# Altium schematic symbol library con-amp-micromatch-8-vias.SCHLIB: 108 symbols (part 2 of 3)
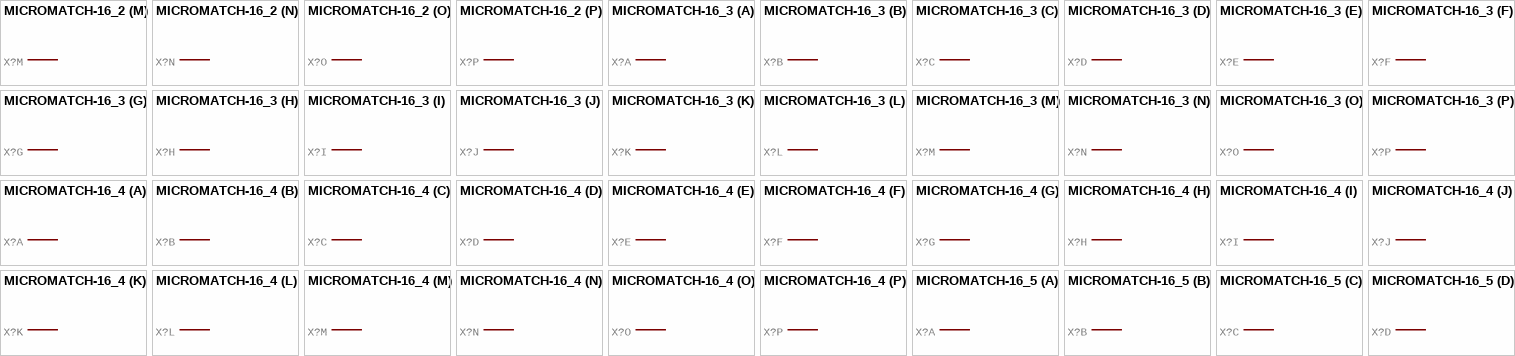
[diagram p39: symbols MICROMATCH-16_2 to MICROMATCH-16_5]

## MICROMATCH-16_2
designator X?, comment MicroMaTch 16  8-215464-6 / 1-215464-6   Drawing Number C-215464 DDEController.pdf  (value not drawn)
GateName_1: -1; SymbolName_1: MV; GateName_2: -2; SymbolName_2: M; GateName_3: -3; GateName_4: -4; GateName_5: -5; GateName_6: -6; GateName_7: -7; GateName_8: -8; GateName_9: -9; GateName_10: -10; GateName_11: -11; GateName_12: -12; GateName_13: -13; GateName_14: -14; GateName_15: -15; GateName_16: -16; DeviceSetName: MICROMATCH-16; MF: FARNELL; SymbolName_3: M; SymbolName_4: M; SymbolName_5: M; SymbolName_6: M; SymbolName_7: M; SymbolName_8: M; SymbolName_9: M; SymbolName_10: M; SymbolName_11: M; SymbolName_12: M; SymbolName_13: M; SymbolName_14: M; SymbolName_15: M; SymbolName_16: M; LibraryName: con-amp-micromatch-8-vias; Package: MICROMATCH-16; MPN: 8-215464-6; OC_FARNELL: 3784680; OC_NEWARK: 26H3309
footprint MICROMATCH-16
part A pins: 1 S
part B pins: 2 S
part C pins: 3 S
part D pins: 4 S
part E pins: 5 S
part F pins: 6 S
part G pins: 7 S
part H pins: 8 S
part I pins: 9 S
part J pins: 10 S
part K pins: 11 S
part L pins: 12 S
part M pins: 13 S
part N pins: 14 S
part O pins: 15 S
part P pins: 16 S

## MICROMATCH-16_3
designator X?, comment MicroMaTch 16  8-215464-6 / 1-215464-6   Drawing Number C-215464 DDEController.pdf  (value not drawn)
GateName_1: -1; SymbolName_1: MV; GateName_2: -2; SymbolName_2: M; GateName_3: -3; GateName_4: -4; GateName_5: -5; GateName_6: -6; GateName_7: -7; GateName_8: -8; GateName_9: -9; GateName_10: -10; GateName_11: -11; GateName_12: -12; GateName_13: -13; GateName_14: -14; GateName_15: -15; GateName_16: -16; DeviceSetName: MICROMATCH-16; MF: FARNELL; SymbolName_3: M; SymbolName_4: M; SymbolName_5: M; SymbolName_6: M; SymbolName_7: M; SymbolName_8: M; SymbolName_9: M; SymbolName_10: M; SymbolName_11: M; SymbolName_12: M; SymbolName_13: M; SymbolName_14: M; SymbolName_15: M; SymbolName_16: M; LibraryName: con-amp-micromatch-8-vias; Package: MICROMATCH-16; MPN: 8-215464-6; OC_FARNELL: 3784680; OC_NEWARK: 26H3309
footprint MICROMATCH-16
part A pins: 1 S
part B pins: 2 S
part C pins: 3 S
part D pins: 4 S
part E pins: 5 S
part F pins: 6 S
part G pins: 7 S
part H pins: 8 S
part I pins: 9 S
part J pins: 10 S
part K pins: 11 S
part L pins: 12 S
part M pins: 13 S
part N pins: 14 S
part O pins: 15 S
part P pins: 16 S

## MICROMATCH-16_4
designator X?, comment MicroMaTch 16  8-215464-6 / 1-215464-6   Drawing Number C-215464 DDEController.pdf  (value not drawn)
GateName_1: -1; SymbolName_1: MV; GateName_2: -2; SymbolName_2: M; GateName_3: -3; GateName_4: -4; GateName_5: -5; GateName_6: -6; GateName_7: -7; GateName_8: -8; GateName_9: -9; GateName_10: -10; GateName_11: -11; GateName_12: -12; GateName_13: -13; GateName_14: -14; GateName_15: -15; GateName_16: -16; DeviceSetName: MICROMATCH-16; MF: FARNELL; SymbolName_3: M; SymbolName_4: M; SymbolName_5: M; SymbolName_6: M; SymbolName_7: M; SymbolName_8: M; SymbolName_9: M; SymbolName_10: M; SymbolName_11: M; SymbolName_12: M; SymbolName_13: M; SymbolName_14: M; SymbolName_15: M; SymbolName_16: M; LibraryName: con-amp-micromatch-8-vias; Package: MICROMATCH-16; MPN: 8-215464-6; OC_FARNELL: 3784680; OC_NEWARK: 26H3309
footprint MICROMATCH-16
part A pins: 1 S
part B pins: 2 S
part C pins: 3 S
part D pins: 4 S
part E pins: 5 S
part F pins: 6 S
part G pins: 7 S
part H pins: 8 S
part I pins: 9 S
part J pins: 10 S
part K pins: 11 S
part L pins: 12 S
part M pins: 13 S
part N pins: 14 S
part O pins: 15 S
part P pins: 16 S

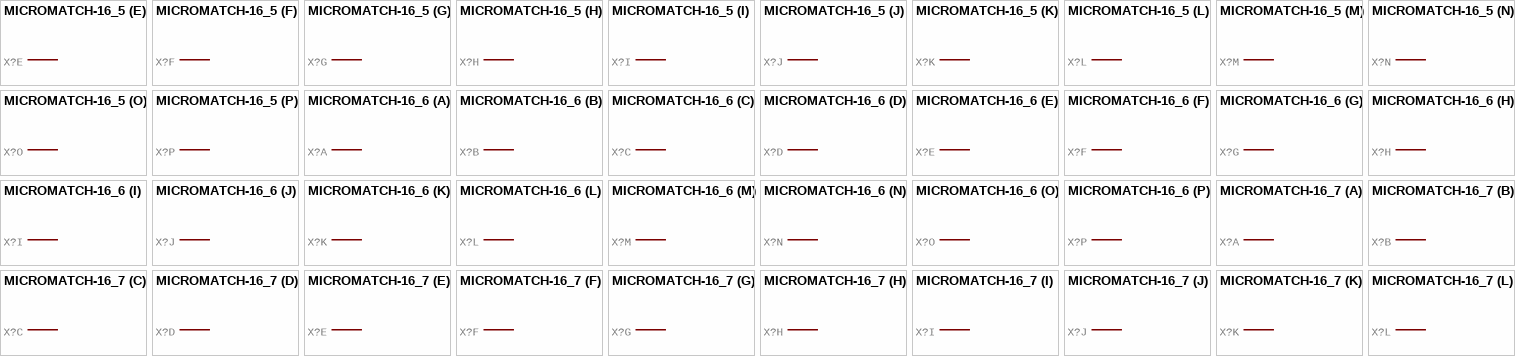
[diagram p16: symbols MICROMATCH-16_5 to MICROMATCH-16_7]

## MICROMATCH-16_5
designator X?, comment MicroMaTch 16  8-215464-6 / 1-215464-6   Drawing Number C-215464 DDEController.pdf  (value not drawn)
GateName_1: -1; SymbolName_1: MV; GateName_2: -2; SymbolName_2: M; GateName_3: -3; GateName_4: -4; GateName_5: -5; GateName_6: -6; GateName_7: -7; GateName_8: -8; GateName_9: -9; GateName_10: -10; GateName_11: -11; GateName_12: -12; GateName_13: -13; GateName_14: -14; GateName_15: -15; GateName_16: -16; DeviceSetName: MICROMATCH-16; MF: FARNELL; SymbolName_3: M; SymbolName_4: M; SymbolName_5: M; SymbolName_6: M; SymbolName_7: M; SymbolName_8: M; SymbolName_9: M; SymbolName_10: M; SymbolName_11: M; SymbolName_12: M; SymbolName_13: M; SymbolName_14: M; SymbolName_15: M; SymbolName_16: M; LibraryName: con-amp-micromatch-8-vias; Package: MICROMATCH-16; MPN: 8-215464-6; OC_FARNELL: 3784680; OC_NEWARK: 26H3309
footprint MICROMATCH-16
part A pins: 1 S
part B pins: 2 S
part C pins: 3 S
part D pins: 4 S
part E pins: 5 S
part F pins: 6 S
part G pins: 7 S
part H pins: 8 S
part I pins: 9 S
part J pins: 10 S
part K pins: 11 S
part L pins: 12 S
part M pins: 13 S
part N pins: 14 S
part O pins: 15 S
part P pins: 16 S

## MICROMATCH-16_6
designator X?, comment MicroMaTch 16  8-215464-6 / 1-215464-6   Drawing Number C-215464 DDEController.pdf  (value not drawn)
GateName_1: -1; SymbolName_1: MV; GateName_2: -2; SymbolName_2: M; GateName_3: -3; GateName_4: -4; GateName_5: -5; GateName_6: -6; GateName_7: -7; GateName_8: -8; GateName_9: -9; GateName_10: -10; GateName_11: -11; GateName_12: -12; GateName_13: -13; GateName_14: -14; GateName_15: -15; GateName_16: -16; DeviceSetName: MICROMATCH-16; MF: FARNELL; SymbolName_3: M; SymbolName_4: M; SymbolName_5: M; SymbolName_6: M; SymbolName_7: M; SymbolName_8: M; SymbolName_9: M; SymbolName_10: M; SymbolName_11: M; SymbolName_12: M; SymbolName_13: M; SymbolName_14: M; SymbolName_15: M; SymbolName_16: M; LibraryName: con-amp-micromatch-8-vias; Package: MICROMATCH-16; MPN: 8-215464-6; OC_FARNELL: 3784680; OC_NEWARK: 26H3309
footprint MICROMATCH-16
part A pins: 1 S
part B pins: 2 S
part C pins: 3 S
part D pins: 4 S
part E pins: 5 S
part F pins: 6 S
part G pins: 7 S
part H pins: 8 S
part I pins: 9 S
part J pins: 10 S
part K pins: 11 S
part L pins: 12 S
part M pins: 13 S
part N pins: 14 S
part O pins: 15 S
part P pins: 16 S

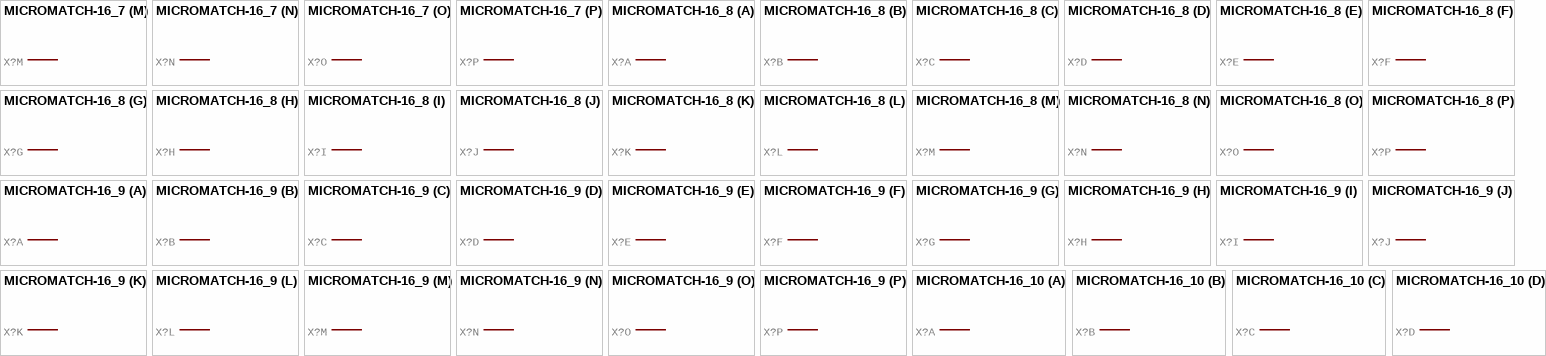
[diagram p17: symbols MICROMATCH-16_7 to MICROMATCH-16_10]

## MICROMATCH-16_7
designator X?, comment MicroMaTch 16  8-215464-6 / 1-215464-6   Drawing Number C-215464 DDEController.pdf  (value not drawn)
GateName_1: -1; SymbolName_1: MV; GateName_2: -2; SymbolName_2: M; GateName_3: -3; GateName_4: -4; GateName_5: -5; GateName_6: -6; GateName_7: -7; GateName_8: -8; GateName_9: -9; GateName_10: -10; GateName_11: -11; GateName_12: -12; GateName_13: -13; GateName_14: -14; GateName_15: -15; GateName_16: -16; DeviceSetName: MICROMATCH-16; MF: FARNELL; SymbolName_3: M; SymbolName_4: M; SymbolName_5: M; SymbolName_6: M; SymbolName_7: M; SymbolName_8: M; SymbolName_9: M; SymbolName_10: M; SymbolName_11: M; SymbolName_12: M; SymbolName_13: M; SymbolName_14: M; SymbolName_15: M; SymbolName_16: M; LibraryName: con-amp-micromatch-8-vias; Package: MICROMATCH-16; MPN: 8-215464-6; OC_FARNELL: 3784680; OC_NEWARK: 26H3309
footprint MICROMATCH-16
part A pins: 1 S
part B pins: 2 S
part C pins: 3 S
part D pins: 4 S
part E pins: 5 S
part F pins: 6 S
part G pins: 7 S
part H pins: 8 S
part I pins: 9 S
part J pins: 10 S
part K pins: 11 S
part L pins: 12 S
part M pins: 13 S
part N pins: 14 S
part O pins: 15 S
part P pins: 16 S

## MICROMATCH-16_8
designator X?, comment MicroMaTch 16  8-215464-6 / 1-215464-6   Drawing Number C-215464 DDEController.pdf  (value not drawn)
GateName_1: -1; SymbolName_1: MV; GateName_2: -2; SymbolName_2: M; GateName_3: -3; GateName_4: -4; GateName_5: -5; GateName_6: -6; GateName_7: -7; GateName_8: -8; GateName_9: -9; GateName_10: -10; GateName_11: -11; GateName_12: -12; GateName_13: -13; GateName_14: -14; GateName_15: -15; GateName_16: -16; DeviceSetName: MICROMATCH-16; MF: FARNELL; SymbolName_3: M; SymbolName_4: M; SymbolName_5: M; SymbolName_6: M; SymbolName_7: M; SymbolName_8: M; SymbolName_9: M; SymbolName_10: M; SymbolName_11: M; SymbolName_12: M; SymbolName_13: M; SymbolName_14: M; SymbolName_15: M; SymbolName_16: M; LibraryName: con-amp-micromatch-8-vias; Package: MICROMATCH-16; MPN: 8-215464-6; OC_FARNELL: 3784680; OC_NEWARK: 26H3309
footprint MICROMATCH-16
part A pins: 1 S
part B pins: 2 S
part C pins: 3 S
part D pins: 4 S
part E pins: 5 S
part F pins: 6 S
part G pins: 7 S
part H pins: 8 S
part I pins: 9 S
part J pins: 10 S
part K pins: 11 S
part L pins: 12 S
part M pins: 13 S
part N pins: 14 S
part O pins: 15 S
part P pins: 16 S

## MICROMATCH-16_9
designator X?, comment MicroMaTch 16  8-215464-6 / 1-215464-6   Drawing Number C-215464 DDEController.pdf  (value not drawn)
GateName_1: -1; SymbolName_1: MV; GateName_2: -2; SymbolName_2: M; GateName_3: -3; GateName_4: -4; GateName_5: -5; GateName_6: -6; GateName_7: -7; GateName_8: -8; GateName_9: -9; GateName_10: -10; GateName_11: -11; GateName_12: -12; GateName_13: -13; GateName_14: -14; GateName_15: -15; GateName_16: -16; DeviceSetName: MICROMATCH-16; MF: FARNELL; SymbolName_3: M; SymbolName_4: M; SymbolName_5: M; SymbolName_6: M; SymbolName_7: M; SymbolName_8: M; SymbolName_9: M; SymbolName_10: M; SymbolName_11: M; SymbolName_12: M; SymbolName_13: M; SymbolName_14: M; SymbolName_15: M; SymbolName_16: M; LibraryName: con-amp-micromatch-8-vias; Package: MICROMATCH-16; MPN: 8-215464-6; OC_FARNELL: 3784680; OC_NEWARK: 26H3309
footprint MICROMATCH-16
part A pins: 1 S
part B pins: 2 S
part C pins: 3 S
part D pins: 4 S
part E pins: 5 S
part F pins: 6 S
part G pins: 7 S
part H pins: 8 S
part I pins: 9 S
part J pins: 10 S
part K pins: 11 S
part L pins: 12 S
part M pins: 13 S
part N pins: 14 S
part O pins: 15 S
part P pins: 16 S

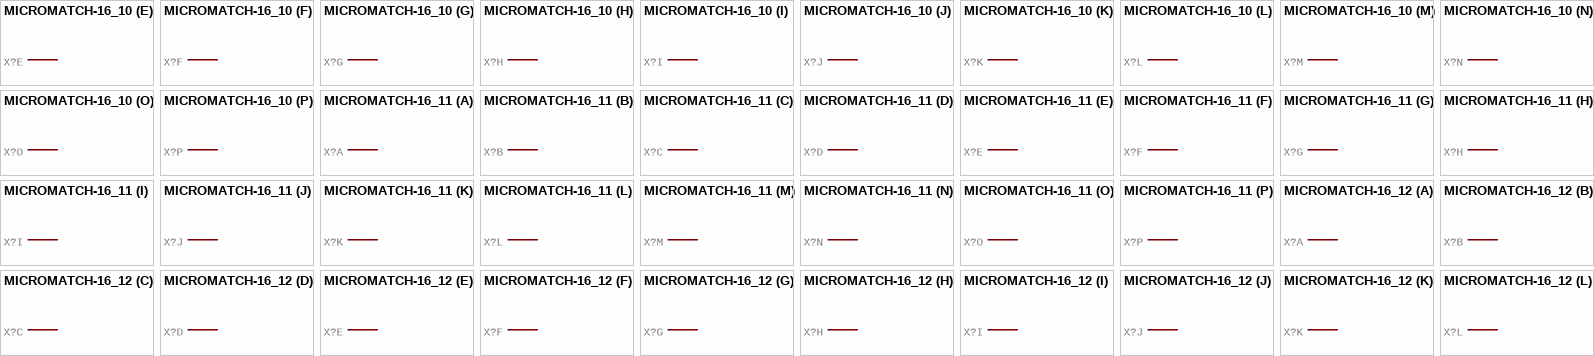
[diagram p18: symbols MICROMATCH-16_10 to MICROMATCH-16_12]

## MICROMATCH-16_10
designator X?, comment MicroMaTch 16  8-215464-6 / 1-215464-6   Drawing Number C-215464 DDEController.pdf  (value not drawn)
GateName_1: -1; SymbolName_1: MV; GateName_2: -2; SymbolName_2: M; GateName_3: -3; GateName_4: -4; GateName_5: -5; GateName_6: -6; GateName_7: -7; GateName_8: -8; GateName_9: -9; GateName_10: -10; GateName_11: -11; GateName_12: -12; GateName_13: -13; GateName_14: -14; GateName_15: -15; GateName_16: -16; DeviceSetName: MICROMATCH-16; MF: FARNELL; SymbolName_3: M; SymbolName_4: M; SymbolName_5: M; SymbolName_6: M; SymbolName_7: M; SymbolName_8: M; SymbolName_9: M; SymbolName_10: M; SymbolName_11: M; SymbolName_12: M; SymbolName_13: M; SymbolName_14: M; SymbolName_15: M; SymbolName_16: M; LibraryName: con-amp-micromatch-8-vias; Package: MICROMATCH-16; MPN: 8-215464-6; OC_FARNELL: 3784680; OC_NEWARK: 26H3309
footprint MICROMATCH-16
part A pins: 1 S
part B pins: 2 S
part C pins: 3 S
part D pins: 4 S
part E pins: 5 S
part F pins: 6 S
part G pins: 7 S
part H pins: 8 S
part I pins: 9 S
part J pins: 10 S
part K pins: 11 S
part L pins: 12 S
part M pins: 13 S
part N pins: 14 S
part O pins: 15 S
part P pins: 16 S

## MICROMATCH-16_11
designator X?, comment MicroMaTch 16  8-215464-6 / 1-215464-6   Drawing Number C-215464 DDEController.pdf  (value not drawn)
GateName_1: -1; SymbolName_1: MV; GateName_2: -2; SymbolName_2: M; GateName_3: -3; GateName_4: -4; GateName_5: -5; GateName_6: -6; GateName_7: -7; GateName_8: -8; GateName_9: -9; GateName_10: -10; GateName_11: -11; GateName_12: -12; GateName_13: -13; GateName_14: -14; GateName_15: -15; GateName_16: -16; DeviceSetName: MICROMATCH-16; MF: FARNELL; SymbolName_3: M; SymbolName_4: M; SymbolName_5: M; SymbolName_6: M; SymbolName_7: M; SymbolName_8: M; SymbolName_9: M; SymbolName_10: M; SymbolName_11: M; SymbolName_12: M; SymbolName_13: M; SymbolName_14: M; SymbolName_15: M; SymbolName_16: M; LibraryName: con-amp-micromatch-8-vias; Package: MICROMATCH-16; MPN: 8-215464-6; OC_FARNELL: 3784680; OC_NEWARK: 26H3309
footprint MICROMATCH-16
part A pins: 1 S
part B pins: 2 S
part C pins: 3 S
part D pins: 4 S
part E pins: 5 S
part F pins: 6 S
part G pins: 7 S
part H pins: 8 S
part I pins: 9 S
part J pins: 10 S
part K pins: 11 S
part L pins: 12 S
part M pins: 13 S
part N pins: 14 S
part O pins: 15 S
part P pins: 16 S

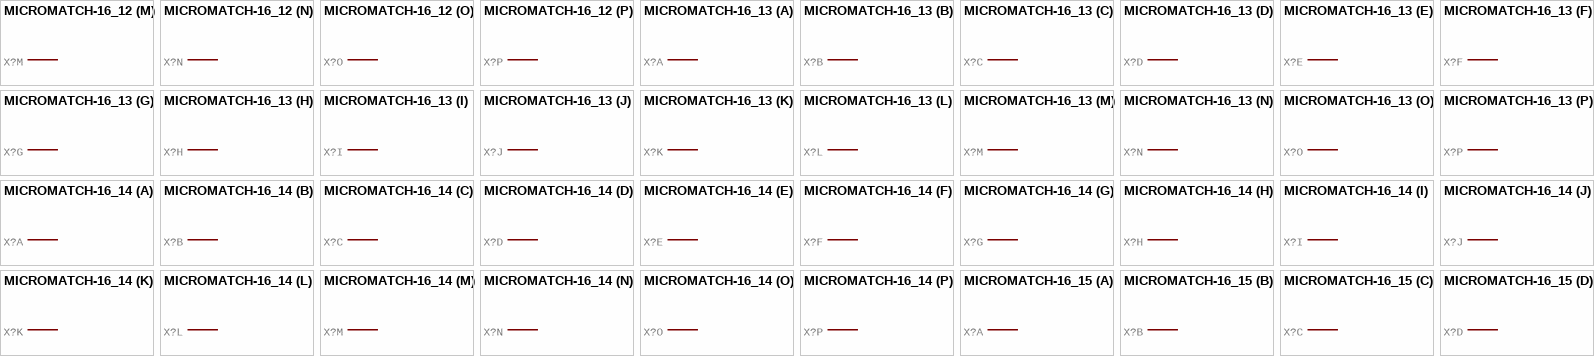
[diagram p19: symbols MICROMATCH-16_12 to MICROMATCH-16_15]

## MICROMATCH-16_12
designator X?, comment MicroMaTch 16  8-215464-6 / 1-215464-6   Drawing Number C-215464 DDEController.pdf  (value not drawn)
GateName_1: -1; SymbolName_1: MV; GateName_2: -2; SymbolName_2: M; GateName_3: -3; GateName_4: -4; GateName_5: -5; GateName_6: -6; GateName_7: -7; GateName_8: -8; GateName_9: -9; GateName_10: -10; GateName_11: -11; GateName_12: -12; GateName_13: -13; GateName_14: -14; GateName_15: -15; GateName_16: -16; DeviceSetName: MICROMATCH-16; MF: FARNELL; SymbolName_3: M; SymbolName_4: M; SymbolName_5: M; SymbolName_6: M; SymbolName_7: M; SymbolName_8: M; SymbolName_9: M; SymbolName_10: M; SymbolName_11: M; SymbolName_12: M; SymbolName_13: M; SymbolName_14: M; SymbolName_15: M; SymbolName_16: M; LibraryName: con-amp-micromatch-8-vias; Package: MICROMATCH-16; MPN: 8-215464-6; OC_FARNELL: 3784680; OC_NEWARK: 26H3309
footprint MICROMATCH-16
part A pins: 1 S
part B pins: 2 S
part C pins: 3 S
part D pins: 4 S
part E pins: 5 S
part F pins: 6 S
part G pins: 7 S
part H pins: 8 S
part I pins: 9 S
part J pins: 10 S
part K pins: 11 S
part L pins: 12 S
part M pins: 13 S
part N pins: 14 S
part O pins: 15 S
part P pins: 16 S

## MICROMATCH-16_13
designator X?, comment MicroMaTch 16  8-215464-6 / 1-215464-6   Drawing Number C-215464 DDEController.pdf  (value not drawn)
GateName_1: -1; SymbolName_1: MV; GateName_2: -2; SymbolName_2: M; GateName_3: -3; GateName_4: -4; GateName_5: -5; GateName_6: -6; GateName_7: -7; GateName_8: -8; GateName_9: -9; GateName_10: -10; GateName_11: -11; GateName_12: -12; GateName_13: -13; GateName_14: -14; GateName_15: -15; GateName_16: -16; DeviceSetName: MICROMATCH-16; MF: FARNELL; SymbolName_3: M; SymbolName_4: M; SymbolName_5: M; SymbolName_6: M; SymbolName_7: M; SymbolName_8: M; SymbolName_9: M; SymbolName_10: M; SymbolName_11: M; SymbolName_12: M; SymbolName_13: M; SymbolName_14: M; SymbolName_15: M; SymbolName_16: M; LibraryName: con-amp-micromatch-8-vias; Package: MICROMATCH-16; MPN: 8-215464-6; OC_FARNELL: 3784680; OC_NEWARK: 26H3309
footprint MICROMATCH-16
part A pins: 1 S
part B pins: 2 S
part C pins: 3 S
part D pins: 4 S
part E pins: 5 S
part F pins: 6 S
part G pins: 7 S
part H pins: 8 S
part I pins: 9 S
part J pins: 10 S
part K pins: 11 S
part L pins: 12 S
part M pins: 13 S
part N pins: 14 S
part O pins: 15 S
part P pins: 16 S

## MICROMATCH-16_14
designator X?, comment MicroMaTch 16  8-215464-6 / 1-215464-6   Drawing Number C-215464 DDEController.pdf  (value not drawn)
GateName_1: -1; SymbolName_1: MV; GateName_2: -2; SymbolName_2: M; GateName_3: -3; GateName_4: -4; GateName_5: -5; GateName_6: -6; GateName_7: -7; GateName_8: -8; GateName_9: -9; GateName_10: -10; GateName_11: -11; GateName_12: -12; GateName_13: -13; GateName_14: -14; GateName_15: -15; GateName_16: -16; DeviceSetName: MICROMATCH-16; MF: FARNELL; SymbolName_3: M; SymbolName_4: M; SymbolName_5: M; SymbolName_6: M; SymbolName_7: M; SymbolName_8: M; SymbolName_9: M; SymbolName_10: M; SymbolName_11: M; SymbolName_12: M; SymbolName_13: M; SymbolName_14: M; SymbolName_15: M; SymbolName_16: M; LibraryName: con-amp-micromatch-8-vias; Package: MICROMATCH-16; MPN: 8-215464-6; OC_FARNELL: 3784680; OC_NEWARK: 26H3309
footprint MICROMATCH-16
part A pins: 1 S
part B pins: 2 S
part C pins: 3 S
part D pins: 4 S
part E pins: 5 S
part F pins: 6 S
part G pins: 7 S
part H pins: 8 S
part I pins: 9 S
part J pins: 10 S
part K pins: 11 S
part L pins: 12 S
part M pins: 13 S
part N pins: 14 S
part O pins: 15 S
part P pins: 16 S

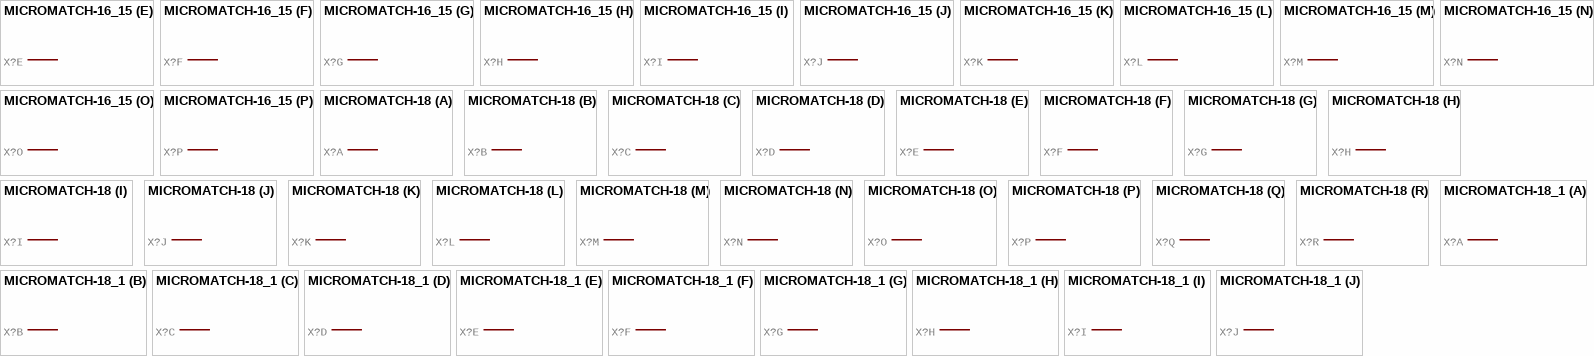
[diagram p20: symbols MICROMATCH-16_15 to MICROMATCH-18_1]

## MICROMATCH-16_15
designator X?, comment MicroMaTch 16  8-215464-6 / 1-215464-6   Drawing Number C-215464 DDEController.pdf  (value not drawn)
GateName_1: -1; SymbolName_1: MV; GateName_2: -2; SymbolName_2: M; GateName_3: -3; GateName_4: -4; GateName_5: -5; GateName_6: -6; GateName_7: -7; GateName_8: -8; GateName_9: -9; GateName_10: -10; GateName_11: -11; GateName_12: -12; GateName_13: -13; GateName_14: -14; GateName_15: -15; GateName_16: -16; DeviceSetName: MICROMATCH-16; MF: FARNELL; SymbolName_3: M; SymbolName_4: M; SymbolName_5: M; SymbolName_6: M; SymbolName_7: M; SymbolName_8: M; SymbolName_9: M; SymbolName_10: M; SymbolName_11: M; SymbolName_12: M; SymbolName_13: M; SymbolName_14: M; SymbolName_15: M; SymbolName_16: M; LibraryName: con-amp-micromatch-8-vias; Package: MICROMATCH-16; MPN: 8-215464-6; OC_FARNELL: 3784680; OC_NEWARK: 26H3309
footprint MICROMATCH-16
part A pins: 1 S
part B pins: 2 S
part C pins: 3 S
part D pins: 4 S
part E pins: 5 S
part F pins: 6 S
part G pins: 7 S
part H pins: 8 S
part I pins: 9 S
part J pins: 10 S
part K pins: 11 S
part L pins: 12 S
part M pins: 13 S
part N pins: 14 S
part O pins: 15 S
part P pins: 16 S

## MICROMATCH-18
designator X?, comment MicroMaTch 18  8-215464-8 / 1-215464-8   Drawing Number C-215464 DDEController.pdf  (value not drawn)
GateName_1: -1; SymbolName_1: MV; GateName_2: -2; SymbolName_2: M; GateName_3: -3; GateName_4: -4; GateName_5: -5; GateName_6: -6; GateName_7: -7; GateName_8: -8; GateName_9: -9; GateName_10: -10; GateName_11: -11; GateName_12: -12; GateName_13: -13; GateName_14: -14; GateName_15: -15; GateName_16: -16; GateName_17: -17; GateName_18: -18; DeviceSetName: MICROMATCH-18; SymbolName_3: M; SymbolName_4: M; SymbolName_5: M; SymbolName_6: M; SymbolName_7: M; SymbolName_8: M; SymbolName_9: M; SymbolName_10: M; SymbolName_11: M; SymbolName_12: M; SymbolName_13: M; SymbolName_14: M; SymbolName_15: M; SymbolName_16: M; SymbolName_17: M; SymbolName_18: M; LibraryName: con-amp-micromatch-8-vias; Package: MICROMATCH-18; MPN: 8-215464-8; OC_FARNELL: 3784691; OC_NEWARK: 19R9303
footprint MICROMATCH-18
part A pins: 1 S
part B pins: 2 S
part C pins: 3 S
part D pins: 4 S
part E pins: 5 S
part F pins: 6 S
part G pins: 7 S
part H pins: 8 S
part I pins: 9 S
part J pins: 10 S
part K pins: 11 S
part L pins: 12 S
part M pins: 13 S
part N pins: 14 S
part O pins: 15 S
part P pins: 16 S
part Q pins: 17 S
part R pins: 18 S

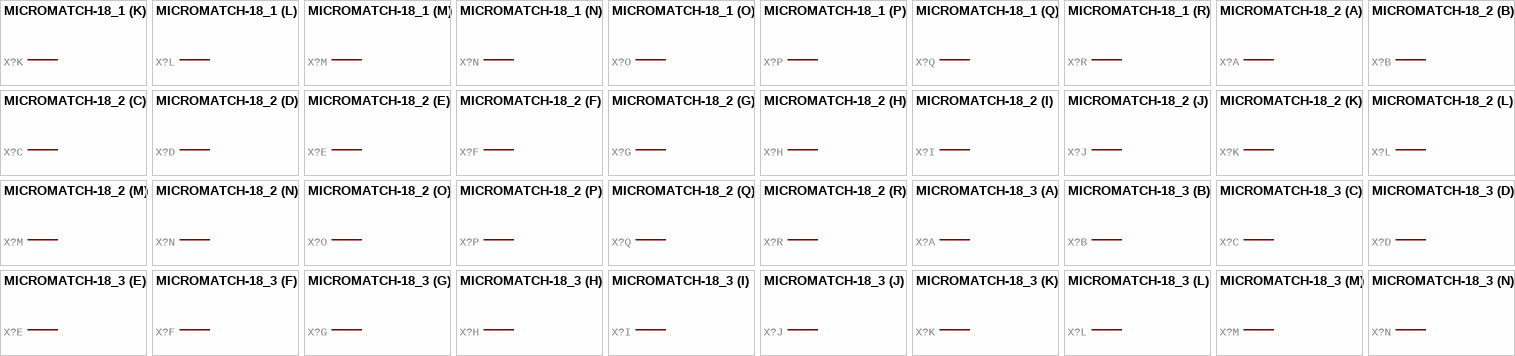
[diagram p21: symbols MICROMATCH-18_1 to MICROMATCH-18_3]

## MICROMATCH-18_1
designator X?, comment MicroMaTch 18  8-215464-8 / 1-215464-8   Drawing Number C-215464 DDEController.pdf  (value not drawn)
GateName_1: -1; SymbolName_1: MV; GateName_2: -2; SymbolName_2: M; GateName_3: -3; GateName_4: -4; GateName_5: -5; GateName_6: -6; GateName_7: -7; GateName_8: -8; GateName_9: -9; GateName_10: -10; GateName_11: -11; GateName_12: -12; GateName_13: -13; GateName_14: -14; GateName_15: -15; GateName_16: -16; GateName_17: -17; GateName_18: -18; DeviceSetName: MICROMATCH-18; SymbolName_3: M; SymbolName_4: M; SymbolName_5: M; SymbolName_6: M; SymbolName_7: M; SymbolName_8: M; SymbolName_9: M; SymbolName_10: M; SymbolName_11: M; SymbolName_12: M; SymbolName_13: M; SymbolName_14: M; SymbolName_15: M; SymbolName_16: M; SymbolName_17: M; SymbolName_18: M; LibraryName: con-amp-micromatch-8-vias; Package: MICROMATCH-18; MPN: 8-215464-8; OC_FARNELL: 3784691; OC_NEWARK: 19R9303
footprint MICROMATCH-18
part A pins: 1 S
part B pins: 2 S
part C pins: 3 S
part D pins: 4 S
part E pins: 5 S
part F pins: 6 S
part G pins: 7 S
part H pins: 8 S
part I pins: 9 S
part J pins: 10 S
part K pins: 11 S
part L pins: 12 S
part M pins: 13 S
part N pins: 14 S
part O pins: 15 S
part P pins: 16 S
part Q pins: 17 S
part R pins: 18 S

## MICROMATCH-18_2
designator X?, comment MicroMaTch 18  8-215464-8 / 1-215464-8   Drawing Number C-215464 DDEController.pdf  (value not drawn)
GateName_1: -1; SymbolName_1: MV; GateName_2: -2; SymbolName_2: M; GateName_3: -3; GateName_4: -4; GateName_5: -5; GateName_6: -6; GateName_7: -7; GateName_8: -8; GateName_9: -9; GateName_10: -10; GateName_11: -11; GateName_12: -12; GateName_13: -13; GateName_14: -14; GateName_15: -15; GateName_16: -16; GateName_17: -17; GateName_18: -18; DeviceSetName: MICROMATCH-18; SymbolName_3: M; SymbolName_4: M; SymbolName_5: M; SymbolName_6: M; SymbolName_7: M; SymbolName_8: M; SymbolName_9: M; SymbolName_10: M; SymbolName_11: M; SymbolName_12: M; SymbolName_13: M; SymbolName_14: M; SymbolName_15: M; SymbolName_16: M; SymbolName_17: M; SymbolName_18: M; LibraryName: con-amp-micromatch-8-vias; Package: MICROMATCH-18; MPN: 8-215464-8; OC_FARNELL: 3784691; OC_NEWARK: 19R9303
footprint MICROMATCH-18
part A pins: 1 S
part B pins: 2 S
part C pins: 3 S
part D pins: 4 S
part E pins: 5 S
part F pins: 6 S
part G pins: 7 S
part H pins: 8 S
part I pins: 9 S
part J pins: 10 S
part K pins: 11 S
part L pins: 12 S
part M pins: 13 S
part N pins: 14 S
part O pins: 15 S
part P pins: 16 S
part Q pins: 17 S
part R pins: 18 S

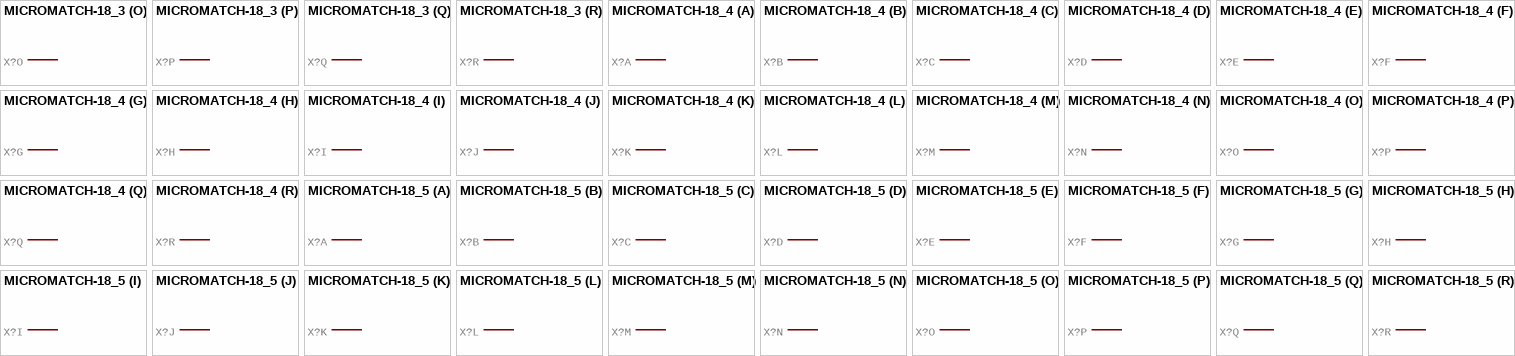
[diagram p22: symbols MICROMATCH-18_3 to MICROMATCH-18_5]

## MICROMATCH-18_3
designator X?, comment MicroMaTch 18  8-215464-8 / 1-215464-8   Drawing Number C-215464 DDEController.pdf  (value not drawn)
GateName_1: -1; SymbolName_1: MV; GateName_2: -2; SymbolName_2: M; GateName_3: -3; GateName_4: -4; GateName_5: -5; GateName_6: -6; GateName_7: -7; GateName_8: -8; GateName_9: -9; GateName_10: -10; GateName_11: -11; GateName_12: -12; GateName_13: -13; GateName_14: -14; GateName_15: -15; GateName_16: -16; GateName_17: -17; GateName_18: -18; DeviceSetName: MICROMATCH-18; SymbolName_3: M; SymbolName_4: M; SymbolName_5: M; SymbolName_6: M; SymbolName_7: M; SymbolName_8: M; SymbolName_9: M; SymbolName_10: M; SymbolName_11: M; SymbolName_12: M; SymbolName_13: M; SymbolName_14: M; SymbolName_15: M; SymbolName_16: M; SymbolName_17: M; SymbolName_18: M; LibraryName: con-amp-micromatch-8-vias; Package: MICROMATCH-18; MPN: 8-215464-8; OC_FARNELL: 3784691; OC_NEWARK: 19R9303
footprint MICROMATCH-18
part A pins: 1 S
part B pins: 2 S
part C pins: 3 S
part D pins: 4 S
part E pins: 5 S
part F pins: 6 S
part G pins: 7 S
part H pins: 8 S
part I pins: 9 S
part J pins: 10 S
part K pins: 11 S
part L pins: 12 S
part M pins: 13 S
part N pins: 14 S
part O pins: 15 S
part P pins: 16 S
part Q pins: 17 S
part R pins: 18 S

## MICROMATCH-18_4
designator X?, comment MicroMaTch 18  8-215464-8 / 1-215464-8   Drawing Number C-215464 DDEController.pdf  (value not drawn)
GateName_1: -1; SymbolName_1: MV; GateName_2: -2; SymbolName_2: M; GateName_3: -3; GateName_4: -4; GateName_5: -5; GateName_6: -6; GateName_7: -7; GateName_8: -8; GateName_9: -9; GateName_10: -10; GateName_11: -11; GateName_12: -12; GateName_13: -13; GateName_14: -14; GateName_15: -15; GateName_16: -16; GateName_17: -17; GateName_18: -18; DeviceSetName: MICROMATCH-18; SymbolName_3: M; SymbolName_4: M; SymbolName_5: M; SymbolName_6: M; SymbolName_7: M; SymbolName_8: M; SymbolName_9: M; SymbolName_10: M; SymbolName_11: M; SymbolName_12: M; SymbolName_13: M; SymbolName_14: M; SymbolName_15: M; SymbolName_16: M; SymbolName_17: M; SymbolName_18: M; LibraryName: con-amp-micromatch-8-vias; Package: MICROMATCH-18; MPN: 8-215464-8; OC_FARNELL: 3784691; OC_NEWARK: 19R9303
footprint MICROMATCH-18
part A pins: 1 S
part B pins: 2 S
part C pins: 3 S
part D pins: 4 S
part E pins: 5 S
part F pins: 6 S
part G pins: 7 S
part H pins: 8 S
part I pins: 9 S
part J pins: 10 S
part K pins: 11 S
part L pins: 12 S
part M pins: 13 S
part N pins: 14 S
part O pins: 15 S
part P pins: 16 S
part Q pins: 17 S
part R pins: 18 S

## MICROMATCH-18_5
designator X?, comment MicroMaTch 18  8-215464-8 / 1-215464-8   Drawing Number C-215464 DDEController.pdf  (value not drawn)
GateName_1: -1; SymbolName_1: MV; GateName_2: -2; SymbolName_2: M; GateName_3: -3; GateName_4: -4; GateName_5: -5; GateName_6: -6; GateName_7: -7; GateName_8: -8; GateName_9: -9; GateName_10: -10; GateName_11: -11; GateName_12: -12; GateName_13: -13; GateName_14: -14; GateName_15: -15; GateName_16: -16; GateName_17: -17; GateName_18: -18; DeviceSetName: MICROMATCH-18; SymbolName_3: M; SymbolName_4: M; SymbolName_5: M; SymbolName_6: M; SymbolName_7: M; SymbolName_8: M; SymbolName_9: M; SymbolName_10: M; SymbolName_11: M; SymbolName_12: M; SymbolName_13: M; SymbolName_14: M; SymbolName_15: M; SymbolName_16: M; SymbolName_17: M; SymbolName_18: M; LibraryName: con-amp-micromatch-8-vias; Package: MICROMATCH-18; MPN: 8-215464-8; OC_FARNELL: 3784691; OC_NEWARK: 19R9303
footprint MICROMATCH-18
part A pins: 1 S
part B pins: 2 S
part C pins: 3 S
part D pins: 4 S
part E pins: 5 S
part F pins: 6 S
part G pins: 7 S
part H pins: 8 S
part I pins: 9 S
part J pins: 10 S
part K pins: 11 S
part L pins: 12 S
part M pins: 13 S
part N pins: 14 S
part O pins: 15 S
part P pins: 16 S
part Q pins: 17 S
part R pins: 18 S

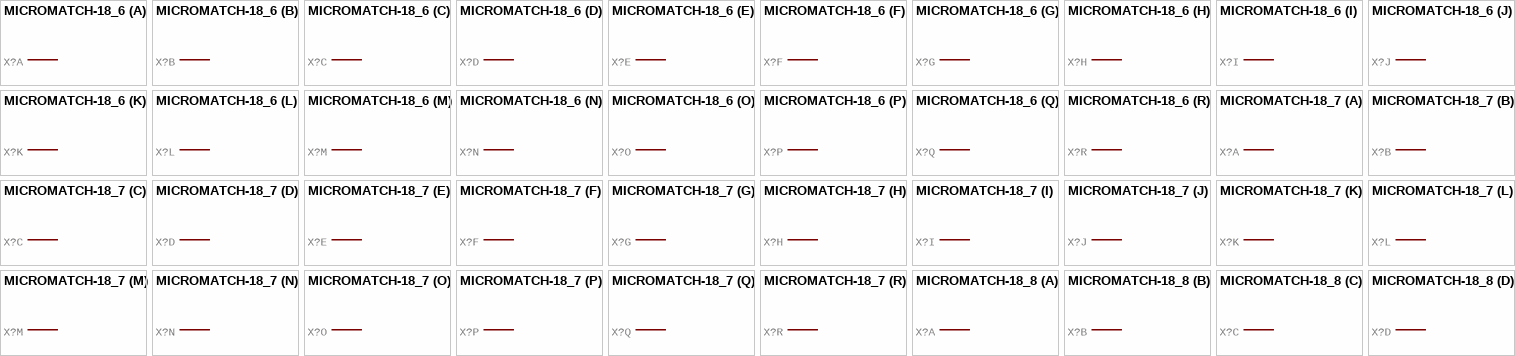
[diagram p23: symbols MICROMATCH-18_6 to MICROMATCH-18_8]

## MICROMATCH-18_6
designator X?, comment MicroMaTch 18  8-215464-8 / 1-215464-8   Drawing Number C-215464 DDEController.pdf  (value not drawn)
GateName_1: -1; SymbolName_1: MV; GateName_2: -2; SymbolName_2: M; GateName_3: -3; GateName_4: -4; GateName_5: -5; GateName_6: -6; GateName_7: -7; GateName_8: -8; GateName_9: -9; GateName_10: -10; GateName_11: -11; GateName_12: -12; GateName_13: -13; GateName_14: -14; GateName_15: -15; GateName_16: -16; GateName_17: -17; GateName_18: -18; DeviceSetName: MICROMATCH-18; SymbolName_3: M; SymbolName_4: M; SymbolName_5: M; SymbolName_6: M; SymbolName_7: M; SymbolName_8: M; SymbolName_9: M; SymbolName_10: M; SymbolName_11: M; SymbolName_12: M; SymbolName_13: M; SymbolName_14: M; SymbolName_15: M; SymbolName_16: M; SymbolName_17: M; SymbolName_18: M; LibraryName: con-amp-micromatch-8-vias; Package: MICROMATCH-18; MPN: 8-215464-8; OC_FARNELL: 3784691; OC_NEWARK: 19R9303
footprint MICROMATCH-18
part A pins: 1 S
part B pins: 2 S
part C pins: 3 S
part D pins: 4 S
part E pins: 5 S
part F pins: 6 S
part G pins: 7 S
part H pins: 8 S
part I pins: 9 S
part J pins: 10 S
part K pins: 11 S
part L pins: 12 S
part M pins: 13 S
part N pins: 14 S
part O pins: 15 S
part P pins: 16 S
part Q pins: 17 S
part R pins: 18 S

## MICROMATCH-18_7
designator X?, comment MicroMaTch 18  8-215464-8 / 1-215464-8   Drawing Number C-215464 DDEController.pdf  (value not drawn)
GateName_1: -1; SymbolName_1: MV; GateName_2: -2; SymbolName_2: M; GateName_3: -3; GateName_4: -4; GateName_5: -5; GateName_6: -6; GateName_7: -7; GateName_8: -8; GateName_9: -9; GateName_10: -10; GateName_11: -11; GateName_12: -12; GateName_13: -13; GateName_14: -14; GateName_15: -15; GateName_16: -16; GateName_17: -17; GateName_18: -18; DeviceSetName: MICROMATCH-18; SymbolName_3: M; SymbolName_4: M; SymbolName_5: M; SymbolName_6: M; SymbolName_7: M; SymbolName_8: M; SymbolName_9: M; SymbolName_10: M; SymbolName_11: M; SymbolName_12: M; SymbolName_13: M; SymbolName_14: M; SymbolName_15: M; SymbolName_16: M; SymbolName_17: M; SymbolName_18: M; LibraryName: con-amp-micromatch-8-vias; Package: MICROMATCH-18; MPN: 8-215464-8; OC_FARNELL: 3784691; OC_NEWARK: 19R9303
footprint MICROMATCH-18
part A pins: 1 S
part B pins: 2 S
part C pins: 3 S
part D pins: 4 S
part E pins: 5 S
part F pins: 6 S
part G pins: 7 S
part H pins: 8 S
part I pins: 9 S
part J pins: 10 S
part K pins: 11 S
part L pins: 12 S
part M pins: 13 S
part N pins: 14 S
part O pins: 15 S
part P pins: 16 S
part Q pins: 17 S
part R pins: 18 S

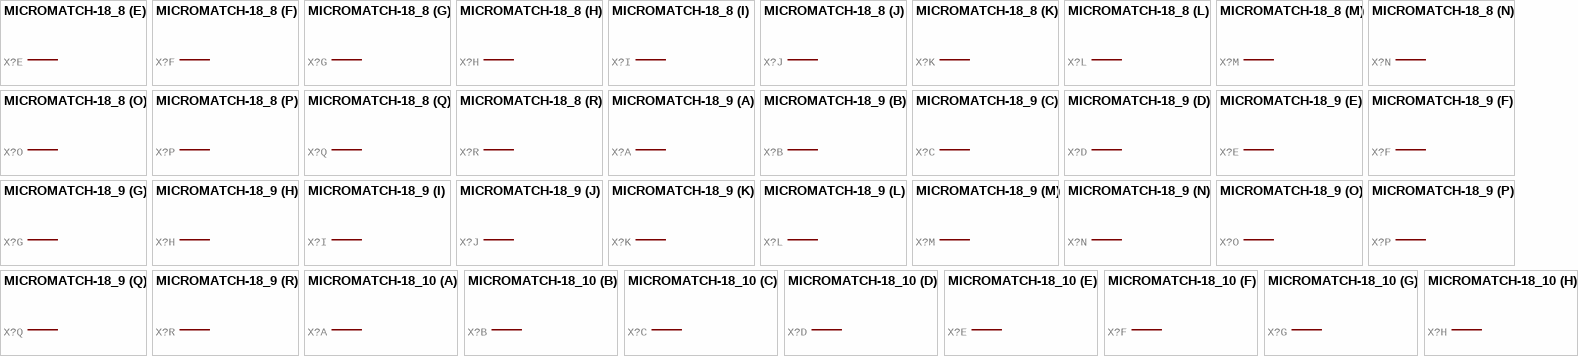
[diagram p24: symbols MICROMATCH-18_8 to MICROMATCH-18_10]

## MICROMATCH-18_8
designator X?, comment MicroMaTch 18  8-215464-8 / 1-215464-8   Drawing Number C-215464 DDEController.pdf  (value not drawn)
GateName_1: -1; SymbolName_1: MV; GateName_2: -2; SymbolName_2: M; GateName_3: -3; GateName_4: -4; GateName_5: -5; GateName_6: -6; GateName_7: -7; GateName_8: -8; GateName_9: -9; GateName_10: -10; GateName_11: -11; GateName_12: -12; GateName_13: -13; GateName_14: -14; GateName_15: -15; GateName_16: -16; GateName_17: -17; GateName_18: -18; DeviceSetName: MICROMATCH-18; SymbolName_3: M; SymbolName_4: M; SymbolName_5: M; SymbolName_6: M; SymbolName_7: M; SymbolName_8: M; SymbolName_9: M; SymbolName_10: M; SymbolName_11: M; SymbolName_12: M; SymbolName_13: M; SymbolName_14: M; SymbolName_15: M; SymbolName_16: M; SymbolName_17: M; SymbolName_18: M; LibraryName: con-amp-micromatch-8-vias; Package: MICROMATCH-18; MPN: 8-215464-8; OC_FARNELL: 3784691; OC_NEWARK: 19R9303
footprint MICROMATCH-18
part A pins: 1 S
part B pins: 2 S
part C pins: 3 S
part D pins: 4 S
part E pins: 5 S
part F pins: 6 S
part G pins: 7 S
part H pins: 8 S
part I pins: 9 S
part J pins: 10 S
part K pins: 11 S
part L pins: 12 S
part M pins: 13 S
part N pins: 14 S
part O pins: 15 S
part P pins: 16 S
part Q pins: 17 S
part R pins: 18 S

## MICROMATCH-18_9
designator X?, comment MicroMaTch 18  8-215464-8 / 1-215464-8   Drawing Number C-215464 DDEController.pdf  (value not drawn)
GateName_1: -1; SymbolName_1: MV; GateName_2: -2; SymbolName_2: M; GateName_3: -3; GateName_4: -4; GateName_5: -5; GateName_6: -6; GateName_7: -7; GateName_8: -8; GateName_9: -9; GateName_10: -10; GateName_11: -11; GateName_12: -12; GateName_13: -13; GateName_14: -14; GateName_15: -15; GateName_16: -16; GateName_17: -17; GateName_18: -18; DeviceSetName: MICROMATCH-18; SymbolName_3: M; SymbolName_4: M; SymbolName_5: M; SymbolName_6: M; SymbolName_7: M; SymbolName_8: M; SymbolName_9: M; SymbolName_10: M; SymbolName_11: M; SymbolName_12: M; SymbolName_13: M; SymbolName_14: M; SymbolName_15: M; SymbolName_16: M; SymbolName_17: M; SymbolName_18: M; LibraryName: con-amp-micromatch-8-vias; Package: MICROMATCH-18; MPN: 8-215464-8; OC_FARNELL: 3784691; OC_NEWARK: 19R9303
footprint MICROMATCH-18
part A pins: 1 S
part B pins: 2 S
part C pins: 3 S
part D pins: 4 S
part E pins: 5 S
part F pins: 6 S
part G pins: 7 S
part H pins: 8 S
part I pins: 9 S
part J pins: 10 S
part K pins: 11 S
part L pins: 12 S
part M pins: 13 S
part N pins: 14 S
part O pins: 15 S
part P pins: 16 S
part Q pins: 17 S
part R pins: 18 S

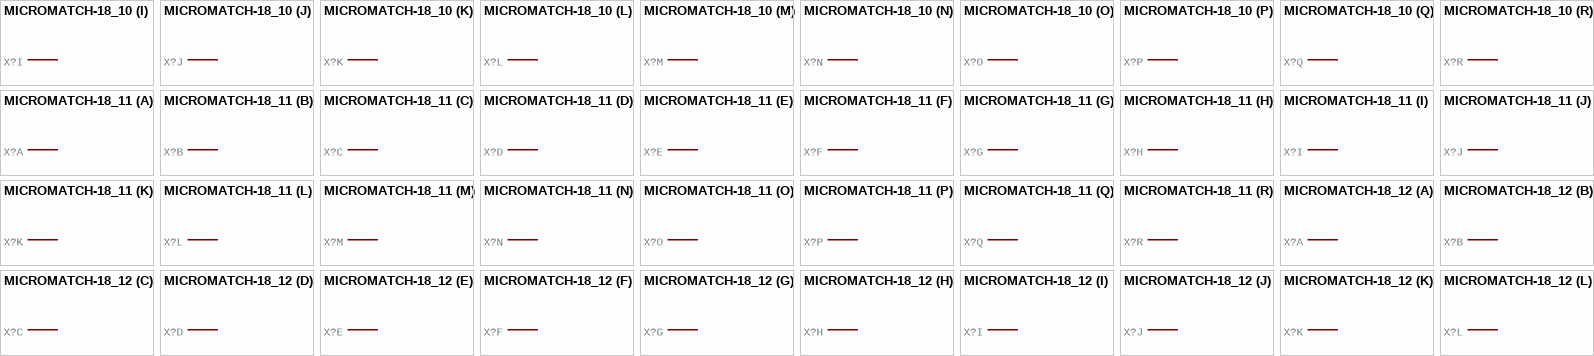
[diagram p25: symbols MICROMATCH-18_10 to MICROMATCH-18_12]

## MICROMATCH-18_10
designator X?, comment MicroMaTch 18  8-215464-8 / 1-215464-8   Drawing Number C-215464 DDEController.pdf  (value not drawn)
GateName_1: -1; SymbolName_1: MV; GateName_2: -2; SymbolName_2: M; GateName_3: -3; GateName_4: -4; GateName_5: -5; GateName_6: -6; GateName_7: -7; GateName_8: -8; GateName_9: -9; GateName_10: -10; GateName_11: -11; GateName_12: -12; GateName_13: -13; GateName_14: -14; GateName_15: -15; GateName_16: -16; GateName_17: -17; GateName_18: -18; DeviceSetName: MICROMATCH-18; SymbolName_3: M; SymbolName_4: M; SymbolName_5: M; SymbolName_6: M; SymbolName_7: M; SymbolName_8: M; SymbolName_9: M; SymbolName_10: M; SymbolName_11: M; SymbolName_12: M; SymbolName_13: M; SymbolName_14: M; SymbolName_15: M; SymbolName_16: M; SymbolName_17: M; SymbolName_18: M; LibraryName: con-amp-micromatch-8-vias; Package: MICROMATCH-18; MPN: 8-215464-8; OC_FARNELL: 3784691; OC_NEWARK: 19R9303
footprint MICROMATCH-18
part A pins: 1 S
part B pins: 2 S
part C pins: 3 S
part D pins: 4 S
part E pins: 5 S
part F pins: 6 S
part G pins: 7 S
part H pins: 8 S
part I pins: 9 S
part J pins: 10 S
part K pins: 11 S
part L pins: 12 S
part M pins: 13 S
part N pins: 14 S
part O pins: 15 S
part P pins: 16 S
part Q pins: 17 S
part R pins: 18 S

## MICROMATCH-18_11
designator X?, comment MicroMaTch 18  8-215464-8 / 1-215464-8   Drawing Number C-215464 DDEController.pdf  (value not drawn)
GateName_1: -1; SymbolName_1: MV; GateName_2: -2; SymbolName_2: M; GateName_3: -3; GateName_4: -4; GateName_5: -5; GateName_6: -6; GateName_7: -7; GateName_8: -8; GateName_9: -9; GateName_10: -10; GateName_11: -11; GateName_12: -12; GateName_13: -13; GateName_14: -14; GateName_15: -15; GateName_16: -16; GateName_17: -17; GateName_18: -18; DeviceSetName: MICROMATCH-18; SymbolName_3: M; SymbolName_4: M; SymbolName_5: M; SymbolName_6: M; SymbolName_7: M; SymbolName_8: M; SymbolName_9: M; SymbolName_10: M; SymbolName_11: M; SymbolName_12: M; SymbolName_13: M; SymbolName_14: M; SymbolName_15: M; SymbolName_16: M; SymbolName_17: M; SymbolName_18: M; LibraryName: con-amp-micromatch-8-vias; Package: MICROMATCH-18; MPN: 8-215464-8; OC_FARNELL: 3784691; OC_NEWARK: 19R9303
footprint MICROMATCH-18
part A pins: 1 S
part B pins: 2 S
part C pins: 3 S
part D pins: 4 S
part E pins: 5 S
part F pins: 6 S
part G pins: 7 S
part H pins: 8 S
part I pins: 9 S
part J pins: 10 S
part K pins: 11 S
part L pins: 12 S
part M pins: 13 S
part N pins: 14 S
part O pins: 15 S
part P pins: 16 S
part Q pins: 17 S
part R pins: 18 S

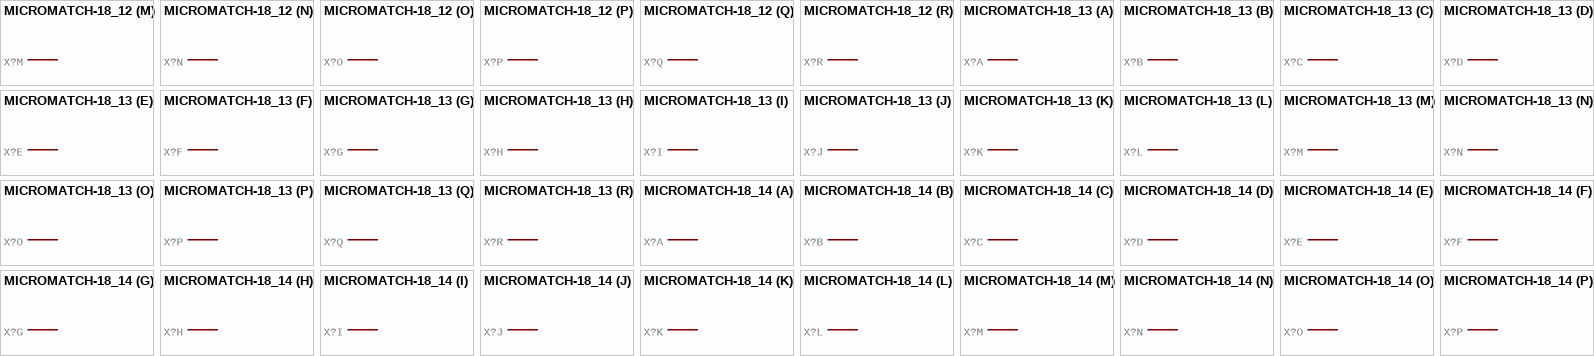
[diagram p26: symbols MICROMATCH-18_12 to MICROMATCH-18_14]

## MICROMATCH-18_12
designator X?, comment MicroMaTch 18  8-215464-8 / 1-215464-8   Drawing Number C-215464 DDEController.pdf  (value not drawn)
GateName_1: -1; SymbolName_1: MV; GateName_2: -2; SymbolName_2: M; GateName_3: -3; GateName_4: -4; GateName_5: -5; GateName_6: -6; GateName_7: -7; GateName_8: -8; GateName_9: -9; GateName_10: -10; GateName_11: -11; GateName_12: -12; GateName_13: -13; GateName_14: -14; GateName_15: -15; GateName_16: -16; GateName_17: -17; GateName_18: -18; DeviceSetName: MICROMATCH-18; SymbolName_3: M; SymbolName_4: M; SymbolName_5: M; SymbolName_6: M; SymbolName_7: M; SymbolName_8: M; SymbolName_9: M; SymbolName_10: M; SymbolName_11: M; SymbolName_12: M; SymbolName_13: M; SymbolName_14: M; SymbolName_15: M; SymbolName_16: M; SymbolName_17: M; SymbolName_18: M; LibraryName: con-amp-micromatch-8-vias; Package: MICROMATCH-18; MPN: 8-215464-8; OC_FARNELL: 3784691; OC_NEWARK: 19R9303
footprint MICROMATCH-18
part A pins: 1 S
part B pins: 2 S
part C pins: 3 S
part D pins: 4 S
part E pins: 5 S
part F pins: 6 S
part G pins: 7 S
part H pins: 8 S
part I pins: 9 S
part J pins: 10 S
part K pins: 11 S
part L pins: 12 S
part M pins: 13 S
part N pins: 14 S
part O pins: 15 S
part P pins: 16 S
part Q pins: 17 S
part R pins: 18 S

## MICROMATCH-18_13
designator X?, comment MicroMaTch 18  8-215464-8 / 1-215464-8   Drawing Number C-215464 DDEController.pdf  (value not drawn)
GateName_1: -1; SymbolName_1: MV; GateName_2: -2; SymbolName_2: M; GateName_3: -3; GateName_4: -4; GateName_5: -5; GateName_6: -6; GateName_7: -7; GateName_8: -8; GateName_9: -9; GateName_10: -10; GateName_11: -11; GateName_12: -12; GateName_13: -13; GateName_14: -14; GateName_15: -15; GateName_16: -16; GateName_17: -17; GateName_18: -18; DeviceSetName: MICROMATCH-18; SymbolName_3: M; SymbolName_4: M; SymbolName_5: M; SymbolName_6: M; SymbolName_7: M; SymbolName_8: M; SymbolName_9: M; SymbolName_10: M; SymbolName_11: M; SymbolName_12: M; SymbolName_13: M; SymbolName_14: M; SymbolName_15: M; SymbolName_16: M; SymbolName_17: M; SymbolName_18: M; LibraryName: con-amp-micromatch-8-vias; Package: MICROMATCH-18; MPN: 8-215464-8; OC_FARNELL: 3784691; OC_NEWARK: 19R9303
footprint MICROMATCH-18
part A pins: 1 S
part B pins: 2 S
part C pins: 3 S
part D pins: 4 S
part E pins: 5 S
part F pins: 6 S
part G pins: 7 S
part H pins: 8 S
part I pins: 9 S
part J pins: 10 S
part K pins: 11 S
part L pins: 12 S
part M pins: 13 S
part N pins: 14 S
part O pins: 15 S
part P pins: 16 S
part Q pins: 17 S
part R pins: 18 S

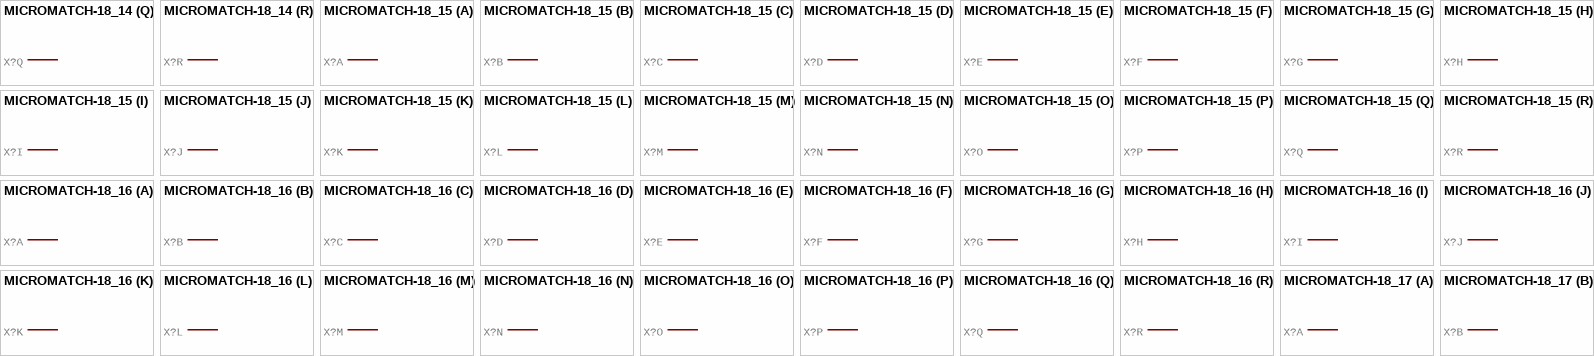
[diagram p27: symbols MICROMATCH-18_14 to MICROMATCH-18_17]

## MICROMATCH-18_14
designator X?, comment MicroMaTch 18  8-215464-8 / 1-215464-8   Drawing Number C-215464 DDEController.pdf  (value not drawn)
GateName_1: -1; SymbolName_1: MV; GateName_2: -2; SymbolName_2: M; GateName_3: -3; GateName_4: -4; GateName_5: -5; GateName_6: -6; GateName_7: -7; GateName_8: -8; GateName_9: -9; GateName_10: -10; GateName_11: -11; GateName_12: -12; GateName_13: -13; GateName_14: -14; GateName_15: -15; GateName_16: -16; GateName_17: -17; GateName_18: -18; DeviceSetName: MICROMATCH-18; SymbolName_3: M; SymbolName_4: M; SymbolName_5: M; SymbolName_6: M; SymbolName_7: M; SymbolName_8: M; SymbolName_9: M; SymbolName_10: M; SymbolName_11: M; SymbolName_12: M; SymbolName_13: M; SymbolName_14: M; SymbolName_15: M; SymbolName_16: M; SymbolName_17: M; SymbolName_18: M; LibraryName: con-amp-micromatch-8-vias; Package: MICROMATCH-18; MPN: 8-215464-8; OC_FARNELL: 3784691; OC_NEWARK: 19R9303
footprint MICROMATCH-18
part A pins: 1 S
part B pins: 2 S
part C pins: 3 S
part D pins: 4 S
part E pins: 5 S
part F pins: 6 S
part G pins: 7 S
part H pins: 8 S
part I pins: 9 S
part J pins: 10 S
part K pins: 11 S
part L pins: 12 S
part M pins: 13 S
part N pins: 14 S
part O pins: 15 S
part P pins: 16 S
part Q pins: 17 S
part R pins: 18 S

## MICROMATCH-18_15
designator X?, comment MicroMaTch 18  8-215464-8 / 1-215464-8   Drawing Number C-215464 DDEController.pdf  (value not drawn)
GateName_1: -1; SymbolName_1: MV; GateName_2: -2; SymbolName_2: M; GateName_3: -3; GateName_4: -4; GateName_5: -5; GateName_6: -6; GateName_7: -7; GateName_8: -8; GateName_9: -9; GateName_10: -10; GateName_11: -11; GateName_12: -12; GateName_13: -13; GateName_14: -14; GateName_15: -15; GateName_16: -16; GateName_17: -17; GateName_18: -18; DeviceSetName: MICROMATCH-18; SymbolName_3: M; SymbolName_4: M; SymbolName_5: M; SymbolName_6: M; SymbolName_7: M; SymbolName_8: M; SymbolName_9: M; SymbolName_10: M; SymbolName_11: M; SymbolName_12: M; SymbolName_13: M; SymbolName_14: M; SymbolName_15: M; SymbolName_16: M; SymbolName_17: M; SymbolName_18: M; LibraryName: con-amp-micromatch-8-vias; Package: MICROMATCH-18; MPN: 8-215464-8; OC_FARNELL: 3784691; OC_NEWARK: 19R9303
footprint MICROMATCH-18
part A pins: 1 S
part B pins: 2 S
part C pins: 3 S
part D pins: 4 S
part E pins: 5 S
part F pins: 6 S
part G pins: 7 S
part H pins: 8 S
part I pins: 9 S
part J pins: 10 S
part K pins: 11 S
part L pins: 12 S
part M pins: 13 S
part N pins: 14 S
part O pins: 15 S
part P pins: 16 S
part Q pins: 17 S
part R pins: 18 S

## MICROMATCH-18_16
designator X?, comment MicroMaTch 18  8-215464-8 / 1-215464-8   Drawing Number C-215464 DDEController.pdf  (value not drawn)
GateName_1: -1; SymbolName_1: MV; GateName_2: -2; SymbolName_2: M; GateName_3: -3; GateName_4: -4; GateName_5: -5; GateName_6: -6; GateName_7: -7; GateName_8: -8; GateName_9: -9; GateName_10: -10; GateName_11: -11; GateName_12: -12; GateName_13: -13; GateName_14: -14; GateName_15: -15; GateName_16: -16; GateName_17: -17; GateName_18: -18; DeviceSetName: MICROMATCH-18; SymbolName_3: M; SymbolName_4: M; SymbolName_5: M; SymbolName_6: M; SymbolName_7: M; SymbolName_8: M; SymbolName_9: M; SymbolName_10: M; SymbolName_11: M; SymbolName_12: M; SymbolName_13: M; SymbolName_14: M; SymbolName_15: M; SymbolName_16: M; SymbolName_17: M; SymbolName_18: M; LibraryName: con-amp-micromatch-8-vias; Package: MICROMATCH-18; MPN: 8-215464-8; OC_FARNELL: 3784691; OC_NEWARK: 19R9303
footprint MICROMATCH-18
part A pins: 1 S
part B pins: 2 S
part C pins: 3 S
part D pins: 4 S
part E pins: 5 S
part F pins: 6 S
part G pins: 7 S
part H pins: 8 S
part I pins: 9 S
part J pins: 10 S
part K pins: 11 S
part L pins: 12 S
part M pins: 13 S
part N pins: 14 S
part O pins: 15 S
part P pins: 16 S
part Q pins: 17 S
part R pins: 18 S

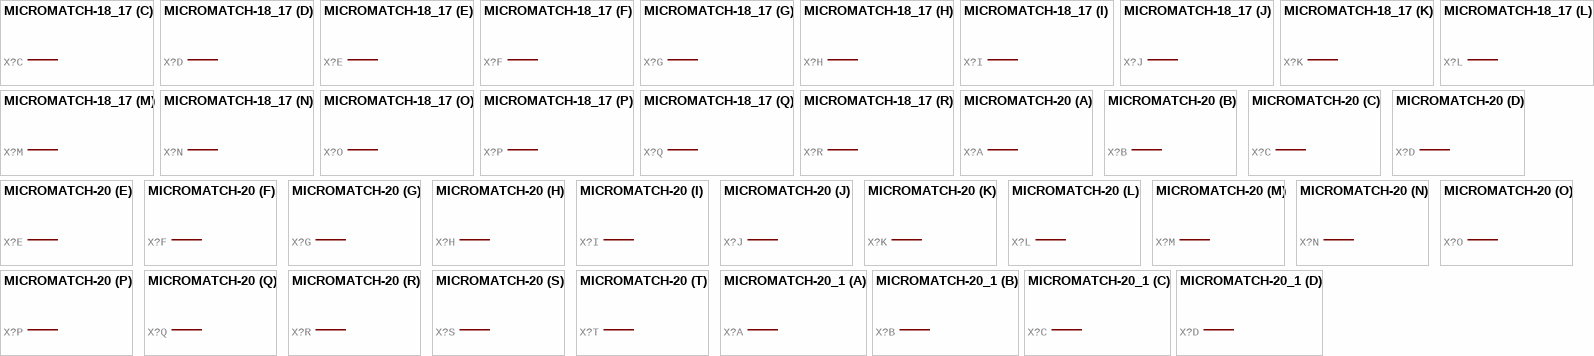
[diagram p28: symbols MICROMATCH-18_17 to MICROMATCH-20_1]

## MICROMATCH-18_17
designator X?, comment MicroMaTch 18  8-215464-8 / 1-215464-8   Drawing Number C-215464 DDEController.pdf  (value not drawn)
GateName_1: -1; SymbolName_1: MV; GateName_2: -2; SymbolName_2: M; GateName_3: -3; GateName_4: -4; GateName_5: -5; GateName_6: -6; GateName_7: -7; GateName_8: -8; GateName_9: -9; GateName_10: -10; GateName_11: -11; GateName_12: -12; GateName_13: -13; GateName_14: -14; GateName_15: -15; GateName_16: -16; GateName_17: -17; GateName_18: -18; DeviceSetName: MICROMATCH-18; SymbolName_3: M; SymbolName_4: M; SymbolName_5: M; SymbolName_6: M; SymbolName_7: M; SymbolName_8: M; SymbolName_9: M; SymbolName_10: M; SymbolName_11: M; SymbolName_12: M; SymbolName_13: M; SymbolName_14: M; SymbolName_15: M; SymbolName_16: M; SymbolName_17: M; SymbolName_18: M; LibraryName: con-amp-micromatch-8-vias; Package: MICROMATCH-18; MPN: 8-215464-8; OC_FARNELL: 3784691; OC_NEWARK: 19R9303
footprint MICROMATCH-18
part A pins: 1 S
part B pins: 2 S
part C pins: 3 S
part D pins: 4 S
part E pins: 5 S
part F pins: 6 S
part G pins: 7 S
part H pins: 8 S
part I pins: 9 S
part J pins: 10 S
part K pins: 11 S
part L pins: 12 S
part M pins: 13 S
part N pins: 14 S
part O pins: 15 S
part P pins: 16 S
part Q pins: 17 S
part R pins: 18 S

## MICROMATCH-20
designator X?, comment MicroMaTch 20  9-215464-0 / 2-215464-0   Drawing Number C-215464 DDEController.pdf  (value not drawn)
GateName_1: -1; SymbolName_1: MV; GateName_2: -2; SymbolName_2: M; GateName_3: -3; GateName_4: -4; GateName_5: -5; GateName_6: -6; GateName_7: -7; GateName_8: -8; GateName_9: -9; GateName_10: -10; GateName_11: -11; GateName_12: -12; GateName_13: -13; GateName_14: -14; GateName_15: -15; GateName_16: -16; GateName_17: -17; GateName_18: -18; GateName_19: -19; GateName_20: -20; DeviceSetName: MICROMATCH-20; MF: FARNELL; SymbolName_3: M; SymbolName_4: M; SymbolName_5: M; SymbolName_6: M; SymbolName_7: M; SymbolName_8: M; SymbolName_9: M; SymbolName_10: M; SymbolName_11: M; SymbolName_12: M; SymbolName_13: M; SymbolName_14: M; SymbolName_15: M; SymbolName_16: M; SymbolName_17: M; SymbolName_18: M; SymbolName_19: M; SymbolName_20: M; LibraryName: con-amp-micromatch-8-vias; Package: MICROMATCH-20; MPN: 9-215464-0; OC_FARNELL: 3784708; OC_NEWARK: 19J6798
footprint MICROMATCH-20
part A pins: 1 S
part B pins: 2 S
part C pins: 3 S
part D pins: 4 S
part E pins: 5 S
part F pins: 6 S
part G pins: 7 S
part H pins: 8 S
part I pins: 9 S
part J pins: 10 S
part K pins: 11 S
part L pins: 12 S
part M pins: 13 S
part N pins: 14 S
part O pins: 15 S
part P pins: 16 S
part Q pins: 17 S
part R pins: 18 S
part S pins: 19 S
part T pins: 20 S

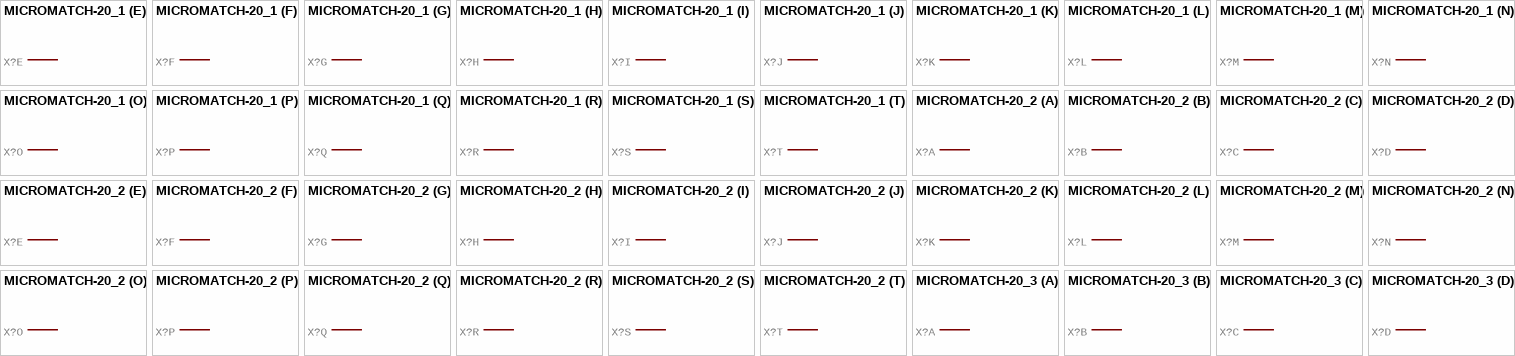
[diagram p29: symbols MICROMATCH-20_1 to MICROMATCH-20_3]

## MICROMATCH-20_1
designator X?, comment MicroMaTch 20  9-215464-0 / 2-215464-0   Drawing Number C-215464 DDEController.pdf  (value not drawn)
GateName_1: -1; SymbolName_1: MV; GateName_2: -2; SymbolName_2: M; GateName_3: -3; GateName_4: -4; GateName_5: -5; GateName_6: -6; GateName_7: -7; GateName_8: -8; GateName_9: -9; GateName_10: -10; GateName_11: -11; GateName_12: -12; GateName_13: -13; GateName_14: -14; GateName_15: -15; GateName_16: -16; GateName_17: -17; GateName_18: -18; GateName_19: -19; GateName_20: -20; DeviceSetName: MICROMATCH-20; MF: FARNELL; SymbolName_3: M; SymbolName_4: M; SymbolName_5: M; SymbolName_6: M; SymbolName_7: M; SymbolName_8: M; SymbolName_9: M; SymbolName_10: M; SymbolName_11: M; SymbolName_12: M; SymbolName_13: M; SymbolName_14: M; SymbolName_15: M; SymbolName_16: M; SymbolName_17: M; SymbolName_18: M; SymbolName_19: M; SymbolName_20: M; LibraryName: con-amp-micromatch-8-vias; Package: MICROMATCH-20; MPN: 9-215464-0; OC_FARNELL: 3784708; OC_NEWARK: 19J6798
footprint MICROMATCH-20
part A pins: 1 S
part B pins: 2 S
part C pins: 3 S
part D pins: 4 S
part E pins: 5 S
part F pins: 6 S
part G pins: 7 S
part H pins: 8 S
part I pins: 9 S
part J pins: 10 S
part K pins: 11 S
part L pins: 12 S
part M pins: 13 S
part N pins: 14 S
part O pins: 15 S
part P pins: 16 S
part Q pins: 17 S
part R pins: 18 S
part S pins: 19 S
part T pins: 20 S

## MICROMATCH-20_2
designator X?, comment MicroMaTch 20  9-215464-0 / 2-215464-0   Drawing Number C-215464 DDEController.pdf  (value not drawn)
GateName_1: -1; SymbolName_1: MV; GateName_2: -2; SymbolName_2: M; GateName_3: -3; GateName_4: -4; GateName_5: -5; GateName_6: -6; GateName_7: -7; GateName_8: -8; GateName_9: -9; GateName_10: -10; GateName_11: -11; GateName_12: -12; GateName_13: -13; GateName_14: -14; GateName_15: -15; GateName_16: -16; GateName_17: -17; GateName_18: -18; GateName_19: -19; GateName_20: -20; DeviceSetName: MICROMATCH-20; MF: FARNELL; SymbolName_3: M; SymbolName_4: M; SymbolName_5: M; SymbolName_6: M; SymbolName_7: M; SymbolName_8: M; SymbolName_9: M; SymbolName_10: M; SymbolName_11: M; SymbolName_12: M; SymbolName_13: M; SymbolName_14: M; SymbolName_15: M; SymbolName_16: M; SymbolName_17: M; SymbolName_18: M; SymbolName_19: M; SymbolName_20: M; LibraryName: con-amp-micromatch-8-vias; Package: MICROMATCH-20; MPN: 9-215464-0; OC_FARNELL: 3784708; OC_NEWARK: 19J6798
footprint MICROMATCH-20
part A pins: 1 S
part B pins: 2 S
part C pins: 3 S
part D pins: 4 S
part E pins: 5 S
part F pins: 6 S
part G pins: 7 S
part H pins: 8 S
part I pins: 9 S
part J pins: 10 S
part K pins: 11 S
part L pins: 12 S
part M pins: 13 S
part N pins: 14 S
part O pins: 15 S
part P pins: 16 S
part Q pins: 17 S
part R pins: 18 S
part S pins: 19 S
part T pins: 20 S

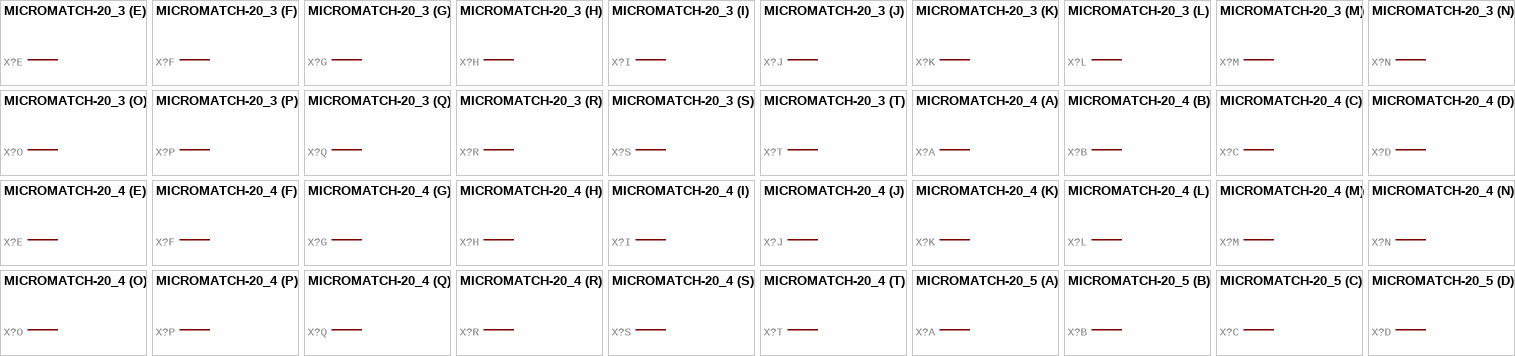
[diagram p30: symbols MICROMATCH-20_3 to MICROMATCH-20_5]

## MICROMATCH-20_3
designator X?, comment MicroMaTch 20  9-215464-0 / 2-215464-0   Drawing Number C-215464 DDEController.pdf  (value not drawn)
GateName_1: -1; SymbolName_1: MV; GateName_2: -2; SymbolName_2: M; GateName_3: -3; GateName_4: -4; GateName_5: -5; GateName_6: -6; GateName_7: -7; GateName_8: -8; GateName_9: -9; GateName_10: -10; GateName_11: -11; GateName_12: -12; GateName_13: -13; GateName_14: -14; GateName_15: -15; GateName_16: -16; GateName_17: -17; GateName_18: -18; GateName_19: -19; GateName_20: -20; DeviceSetName: MICROMATCH-20; MF: FARNELL; SymbolName_3: M; SymbolName_4: M; SymbolName_5: M; SymbolName_6: M; SymbolName_7: M; SymbolName_8: M; SymbolName_9: M; SymbolName_10: M; SymbolName_11: M; SymbolName_12: M; SymbolName_13: M; SymbolName_14: M; SymbolName_15: M; SymbolName_16: M; SymbolName_17: M; SymbolName_18: M; SymbolName_19: M; SymbolName_20: M; LibraryName: con-amp-micromatch-8-vias; Package: MICROMATCH-20; MPN: 9-215464-0; OC_FARNELL: 3784708; OC_NEWARK: 19J6798
footprint MICROMATCH-20
part A pins: 1 S
part B pins: 2 S
part C pins: 3 S
part D pins: 4 S
part E pins: 5 S
part F pins: 6 S
part G pins: 7 S
part H pins: 8 S
part I pins: 9 S
part J pins: 10 S
part K pins: 11 S
part L pins: 12 S
part M pins: 13 S
part N pins: 14 S
part O pins: 15 S
part P pins: 16 S
part Q pins: 17 S
part R pins: 18 S
part S pins: 19 S
part T pins: 20 S

## MICROMATCH-20_4
designator X?, comment MicroMaTch 20  9-215464-0 / 2-215464-0   Drawing Number C-215464 DDEController.pdf  (value not drawn)
GateName_1: -1; SymbolName_1: MV; GateName_2: -2; SymbolName_2: M; GateName_3: -3; GateName_4: -4; GateName_5: -5; GateName_6: -6; GateName_7: -7; GateName_8: -8; GateName_9: -9; GateName_10: -10; GateName_11: -11; GateName_12: -12; GateName_13: -13; GateName_14: -14; GateName_15: -15; GateName_16: -16; GateName_17: -17; GateName_18: -18; GateName_19: -19; GateName_20: -20; DeviceSetName: MICROMATCH-20; MF: FARNELL; SymbolName_3: M; SymbolName_4: M; SymbolName_5: M; SymbolName_6: M; SymbolName_7: M; SymbolName_8: M; SymbolName_9: M; SymbolName_10: M; SymbolName_11: M; SymbolName_12: M; SymbolName_13: M; SymbolName_14: M; SymbolName_15: M; SymbolName_16: M; SymbolName_17: M; SymbolName_18: M; SymbolName_19: M; SymbolName_20: M; LibraryName: con-amp-micromatch-8-vias; Package: MICROMATCH-20; MPN: 9-215464-0; OC_FARNELL: 3784708; OC_NEWARK: 19J6798
footprint MICROMATCH-20
part A pins: 1 S
part B pins: 2 S
part C pins: 3 S
part D pins: 4 S
part E pins: 5 S
part F pins: 6 S
part G pins: 7 S
part H pins: 8 S
part I pins: 9 S
part J pins: 10 S
part K pins: 11 S
part L pins: 12 S
part M pins: 13 S
part N pins: 14 S
part O pins: 15 S
part P pins: 16 S
part Q pins: 17 S
part R pins: 18 S
part S pins: 19 S
part T pins: 20 S

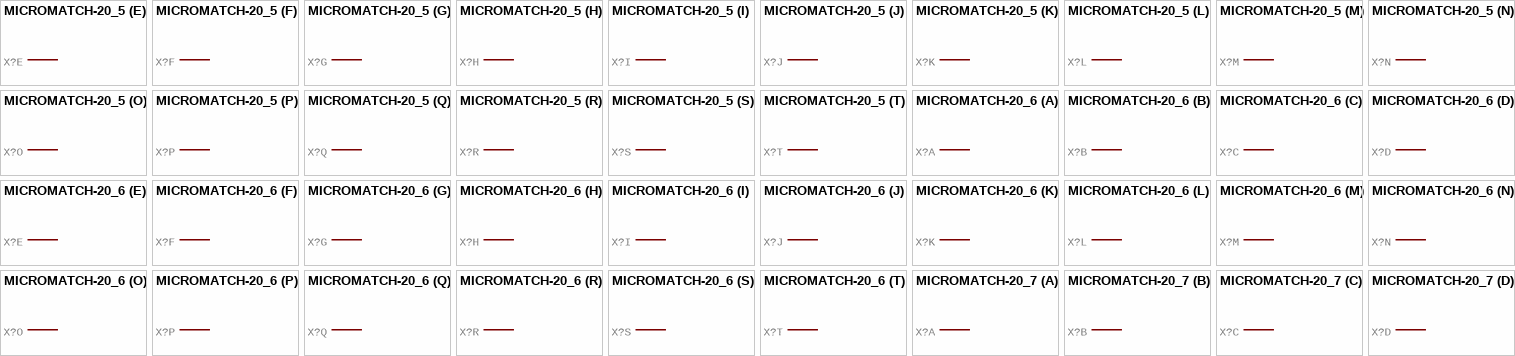
[diagram p31: symbols MICROMATCH-20_5 to MICROMATCH-20_7]

## MICROMATCH-20_5
designator X?, comment MicroMaTch 20  9-215464-0 / 2-215464-0   Drawing Number C-215464 DDEController.pdf  (value not drawn)
GateName_1: -1; SymbolName_1: MV; GateName_2: -2; SymbolName_2: M; GateName_3: -3; GateName_4: -4; GateName_5: -5; GateName_6: -6; GateName_7: -7; GateName_8: -8; GateName_9: -9; GateName_10: -10; GateName_11: -11; GateName_12: -12; GateName_13: -13; GateName_14: -14; GateName_15: -15; GateName_16: -16; GateName_17: -17; GateName_18: -18; GateName_19: -19; GateName_20: -20; DeviceSetName: MICROMATCH-20; MF: FARNELL; SymbolName_3: M; SymbolName_4: M; SymbolName_5: M; SymbolName_6: M; SymbolName_7: M; SymbolName_8: M; SymbolName_9: M; SymbolName_10: M; SymbolName_11: M; SymbolName_12: M; SymbolName_13: M; SymbolName_14: M; SymbolName_15: M; SymbolName_16: M; SymbolName_17: M; SymbolName_18: M; SymbolName_19: M; SymbolName_20: M; LibraryName: con-amp-micromatch-8-vias; Package: MICROMATCH-20; MPN: 9-215464-0; OC_FARNELL: 3784708; OC_NEWARK: 19J6798
footprint MICROMATCH-20
part A pins: 1 S
part B pins: 2 S
part C pins: 3 S
part D pins: 4 S
part E pins: 5 S
part F pins: 6 S
part G pins: 7 S
part H pins: 8 S
part I pins: 9 S
part J pins: 10 S
part K pins: 11 S
part L pins: 12 S
part M pins: 13 S
part N pins: 14 S
part O pins: 15 S
part P pins: 16 S
part Q pins: 17 S
part R pins: 18 S
part S pins: 19 S
part T pins: 20 S

## MICROMATCH-20_6
designator X?, comment MicroMaTch 20  9-215464-0 / 2-215464-0   Drawing Number C-215464 DDEController.pdf  (value not drawn)
GateName_1: -1; SymbolName_1: MV; GateName_2: -2; SymbolName_2: M; GateName_3: -3; GateName_4: -4; GateName_5: -5; GateName_6: -6; GateName_7: -7; GateName_8: -8; GateName_9: -9; GateName_10: -10; GateName_11: -11; GateName_12: -12; GateName_13: -13; GateName_14: -14; GateName_15: -15; GateName_16: -16; GateName_17: -17; GateName_18: -18; GateName_19: -19; GateName_20: -20; DeviceSetName: MICROMATCH-20; MF: FARNELL; SymbolName_3: M; SymbolName_4: M; SymbolName_5: M; SymbolName_6: M; SymbolName_7: M; SymbolName_8: M; SymbolName_9: M; SymbolName_10: M; SymbolName_11: M; SymbolName_12: M; SymbolName_13: M; SymbolName_14: M; SymbolName_15: M; SymbolName_16: M; SymbolName_17: M; SymbolName_18: M; SymbolName_19: M; SymbolName_20: M; LibraryName: con-amp-micromatch-8-vias; Package: MICROMATCH-20; MPN: 9-215464-0; OC_FARNELL: 3784708; OC_NEWARK: 19J6798
footprint MICROMATCH-20
part A pins: 1 S
part B pins: 2 S
part C pins: 3 S
part D pins: 4 S
part E pins: 5 S
part F pins: 6 S
part G pins: 7 S
part H pins: 8 S
part I pins: 9 S
part J pins: 10 S
part K pins: 11 S
part L pins: 12 S
part M pins: 13 S
part N pins: 14 S
part O pins: 15 S
part P pins: 16 S
part Q pins: 17 S
part R pins: 18 S
part S pins: 19 S
part T pins: 20 S

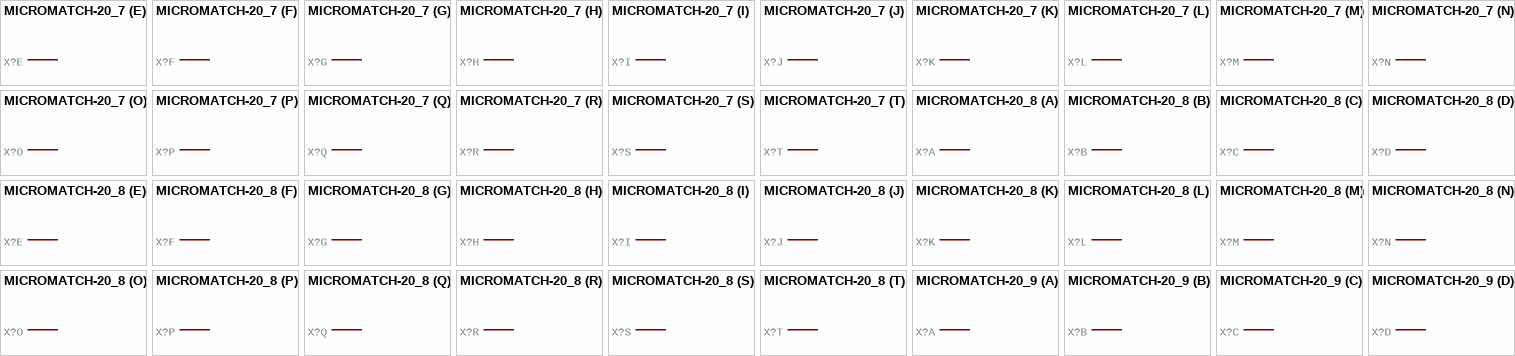
[diagram p32: symbols MICROMATCH-20_7 to MICROMATCH-20_9]